# EAGLE library part TSM (library MyParts)
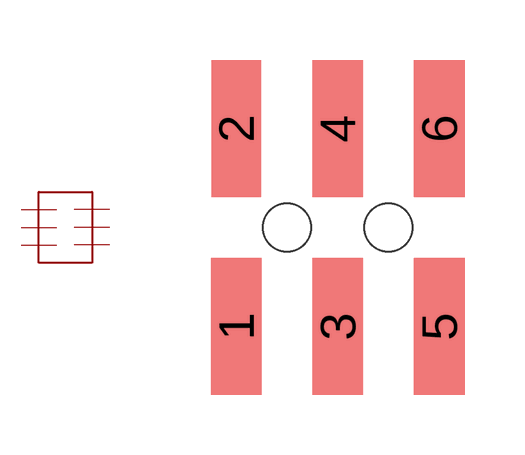
[diagram p15: symbol with the pads of 2X3_.1INCHHEADER; footprint 2X3_.1INCHHEADER]

Designator prefix -

## TSM-103-01-T-DV  [2X3_.1INCHHEADER]
1  1
2  2
3  3
4  4
5  5
6  6

## Footprint 2X3_.1INCHHEADER (pad centres in mm)
smd 1.27 x 3.429: 1 -2.54,-2.477; 2 -2.54,2.477; 3 0,-2.477; 4 0,2.477; 5 2.54,-2.477; 6 2.54,2.477
hole 1.194 at -1.27,0
hole 1.194 at 1.27,0